# EAGLE library part MOTOR_BOARD_CONN (library motor)
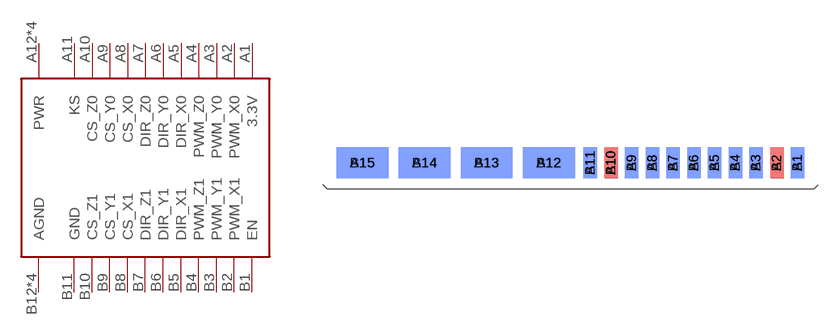
[diagram p2: symbol with the pads of CARD_30PIN_8PWR; footprint CARD_30PIN_8PWR]

Designator prefix -

## MOTOR_BOARD_CONN  [CARD_30PIN_8PWR]
A1  3.3V
A2  PWM_X0
A3  PWM_Y0
A4  PWM_Z0
A5  DIR_X0
A6  DIR_Y0
A7  DIR_Z0
A8  CS_X0
A9  CS_Y0
A10  CS_Z0
A11  KS
A12  PWR
A13  PWR
A14  PWR
A15  PWR
B1  EN
B2  PWM_X1
B3  PWM_Y1
B4  PWM_Z1
B5  DIR_X1
B6  DIR_Y1
B7  DIR_Z1
B8  CS_X1
B9  CS_Y1
B10  CS_Z1
B11  GND
B12  AGND
B13  AGND
B14  AGND
B15  AGND

## Footprint CARD_30PIN_8PWR (pad centres in mm)
smd 1.651 x 3.81: A1 10.16,0.635; A2 7.62,0.635; A3 5.08,0.635; A4 2.54,0.635; A5 0,0.635; A6 -2.54,0.635; A7 -5.08,0.635; A8 -7.62,0.635; A9 -10.16,0.635; A10 -12.7,0.635; A11 -15.24,0.635
smd 6.35 x 3.81: A12 -20.32,0.635; A13 -27.94,0.635; A14 -35.56,0.635; A15 -43.18,0.635
smd 1.651 x 3.81 bottom: B1 10.16,0.635; B2 7.62,0.635; B3 5.08,0.635; B4 2.54,0.635; B5 0,0.635; B6 -2.54,0.635; B7 -5.08,0.635; B8 -7.62,0.635; B9 -10.16,0.635; B10 -12.7,0.635; B11 -15.24,0.635
smd 6.35 x 3.81 bottom: B12 -20.32,0.635; B13 -27.94,0.635; B14 -35.56,0.635; B15 -43.18,0.635